# EAGLE library part TDA7388 (library Audio-Power-amlifier V.2.0)
The TDA7386 is an AB class audio power amplifier, packaged in Flexiwatt 25 and designed for high end car radio applications. Based on a fully complementary PNP/NPN configuration, the TDA7386 allows a rail to rail output voltage swing with no need of bootstrap capacitors. The extremely reduced boundary components count allows very compact sets.
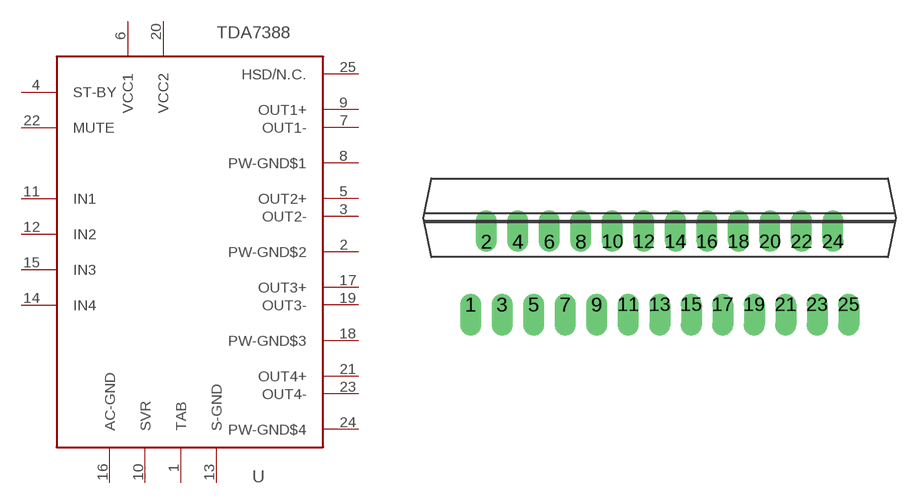
[diagram p126: symbol with the pads of FLEXIWATT25; footprint FLEXIWATT25]

Designator prefix -

## TDA7388  [FLEXIWATT25]
1  TAB
2  PW-GND$2
3  OUT2-
4  ST-BY
5  OUT2+
6  VCC1
7  OUT1-
8  PW-GND$1
9  OUT1+
10  SVR
11  IN1
12  IN2
13  S-GND
14  IN4
15  IN3
16  AC-GND
17  OUT3+
18  PW-GND$3
19  OUT3-
20  VCC2
21  OUT4+
22  MUTE
23  OUT4-
24  PW-GND$4
25  HSD/N.C.

## Footprint FLEXIWATT25 (pad centres in mm)
Flexiwatt25 (vertical)
drill 0.813 offset: 1 -12,0; 2 -11,4; 3 -10,0; 4 -9,4; 5 -8,0; 6 -7,4; 7 -6,0; 8 -5,4; 9 -4,0; 10 -3,4; 11 -2,0; 12 -1,4; 13 0,0; 14 1,4; 15 2,0; 16 3,4; 17 4,0; 18 5,4; 19 6,0; 20 7,4; 21 8,0; 22 9,4; 23 10,0; 24 11,4; 25 12,0